# EAGLE library part INA219 (library ds_ic_peripherals)
26-V 12-bit I2C output digital power monitor
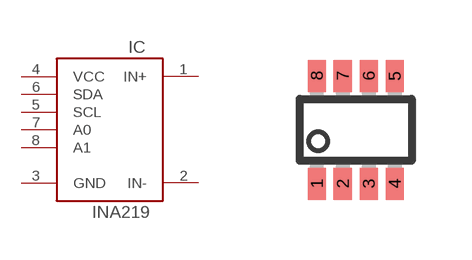
[diagram p13: symbol with the pads of SOT23-8; footprint SOT23-8]

Designator prefix IC

## INA219BIDCNT (DATASHEET: https://www.ti.com/lit/ds/symlink/ina219.pdf?ts=1746203207020&ref_url=https%253A%252F%252Fwww.ti.com%252Fproduct%252FINA219%253Futm_source%253Dgoogle%2526utm_medium%253Dcpc%2526utm_campaign%253Dasc-amps-null-44700045336317113_prodfolderdynamic-cpc-pf-google-ww_en_int%2526utm_content%253Dprodfolddynamic%2526ds_k%253DDYNAMIC+SEARCH+ADS%2526DCM%253Dyes%2526gad_source%253D1%2526gad_campaignid%253D6465287935%2526gbraid%253D0AAAAAC068F29A-VFUfql4RGIMSgS5JF2z%2526gclid%253DCj0KCQjw2tHABhCiARIsANZzDWoEXFkzyL_LeVAGcFnL_-XGNWpvMIarUVX6O9OTsjwf9O46oUFWObgaAqp2EALw_wcB%2526gclsrc%253Daw.ds; HQ_PART: IC0063216; LCSC_PART: C2653868; MANUFACTURER: Texas Instruments; MPN: INA219BIDCNT; ROHS: YES; VALUE: INA219BIDCNT)  [SOT23-8]
1  IN+
2  IN-
3  GND
4  VCC
5  SCL
6  SDA
7  A0
8  A1

## Footprint SOT23-8 (pad centres in mm)
smd 0.45 x 0.8: 1 -0.975,-1.35; 2 -0.325,-1.35; 3 0.325,-1.35; 4 0.975,-1.35; 5 0.975,1.35; 6 0.325,1.35; 7 -0.325,1.35; 8 -0.975,1.35